# EAGLE library part MCP4725 (library Microchip)
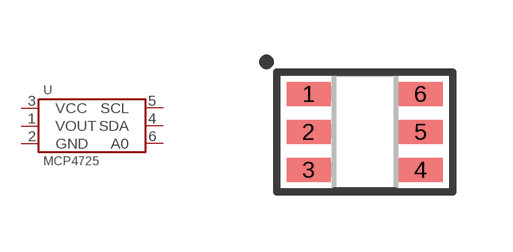
[diagram p15: symbol with the pads of SOT-23-6; footprint SOT-23-6]

Designator prefix U

## MCP4725A0T-E/CH  [SOT-23-6]
1  VOUT
2  GND
3  VCC
4  SDA
5  SCL
6  A0

## Footprint SOT-23-6 (pad centres in mm)
smd 1.1 x 0.6: 1 -1.4,0.95; 2 -1.4,0; 3 -1.4,-0.95; 4 1.4,-0.95; 5 1.4,0; 6 1.4,0.95